# Altium footprint library Connectors Terminal.PcbLib: 6 footprints
Each footprint in its own frame and in the unit in brackets; x right, y up, seen from the top. Pads: shape width x height; smd on the part's side, far side on the other; paste and mask are expansions set on the pad; w line width, h text height; cw(c..) or ccw(c..) is an arc to the next point about the centre after c.
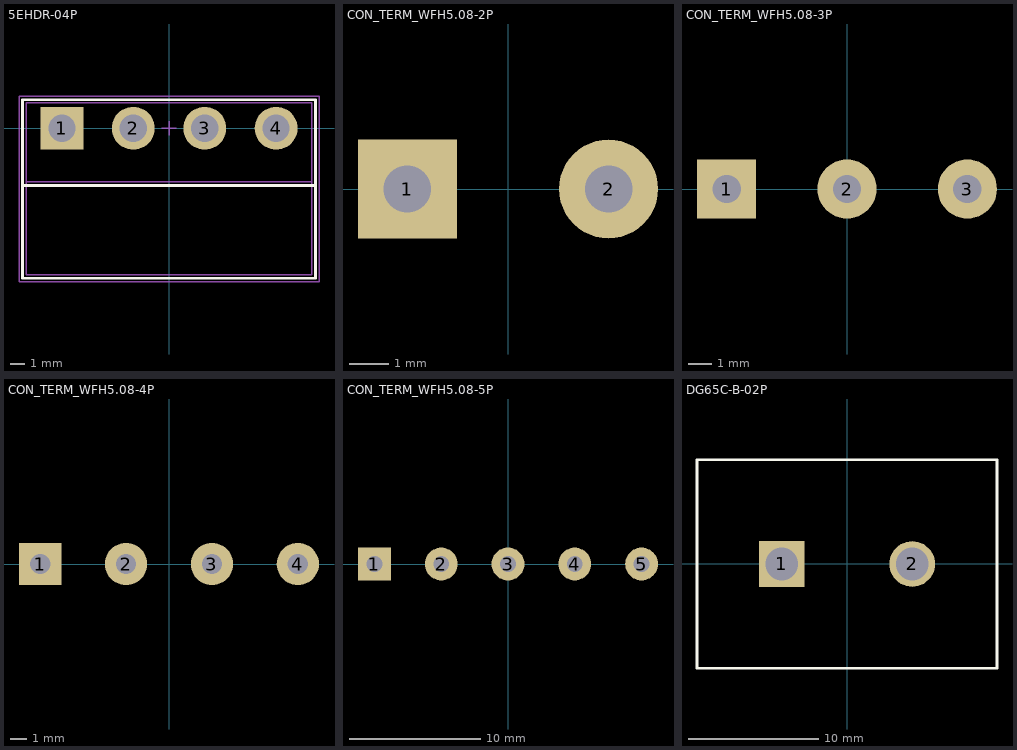
[diagram p0: the footprints below, top view; thin cyan lines are the x and y axes]

## 5EHDR-04P [mm] "5EHDR  connector; Place for header 4pins 5.0 pitch"
height 7
pads (4):
  rect 3x3 hole 1.9: 1(-7.5,0)
  round 3 hole 1.9: 2(-2.5,0) 3(2.5,0) 4(7.5,0)
Top Overlay:
  lines w0.2: -10.15,-4 10.25,-4 ; -10.25,-10.5 -10.25,2 10.25,2 10.25,-10.5 -10.25,-10.5
Top Package:
  circle w0.1: c7.5,0 r0.85
  circle w0.1: c2.5,0 r0.85
  circle w0.1: c-7.5,0 r0.85
  circle w0.1: c-2.5,0 r0.85
  lines w0.1: -10,-3.75 10,-3.75 ; -10,-10.25 10,-10.25 10,1.8 -10,1.8 -10,-10.25
Top Border:
  lines w0.1: -0.5,0 0.5,0 ; 0,-0.5 0,0.5 ; -10.5,-10.75 10.5,-10.75 10.5,2.25 -10.5,2.25 -10.5,-10.75
3D body "5EHDR-02P.step": height 8.57, standoff -3.9, extent 0,-10.25 10,1.75
3D body "5EHDR-02P.step": height 8.57, standoff -3.9, extent -10,-10.25 0,1.75

## CON_TERM_WFH5.08-2P [mm]
height 10
pads (2):
  rect 2.5x2.5 hole 1.2: 1(-2.54,0)
  round 2.5 hole 1.2: 2(2.54,0)
3D body: height 0.25, standoff 0, extent 0,0 0,0
3D body: height 0.25, standoff 0, extent 1.3,0.5 1.3,0.5
3D body "User Library-Terminal-Screw-3A-2way.step": height 10, standoff -3, extent -5.625,-3.025 4.975,4.575

## CON_TERM_WFH5.08-3P [mm]
height 10
pads (3):
  rect 2.5x2.5 hole 1.2: 1(-5.08,0)
  round 2.5 hole 1.2: 2(0,0) 3(5.08,0)
3D body: height 0.25, standoff 0, extent 0,0 0,0
3D body "User Library-Terminal-Screw-3A-3way.step": height 10, standoff -3, extent -8.075,-3 7.525,4.6
3D body: height 0.25, standoff 0, extent 1.3,0.5 1.3,0.5

## CON_TERM_WFH5.08-4P [mm]
height 10
pads (4):
  rect 2.5x2.5 hole 1.2: 1(-7.62,0)
  round 2.5 hole 1.2: 2(-2.54,0) 3(2.54,0) 4(7.62,0)
3D body: height 0.25, standoff 0, extent 0,0 0,0
3D body: height 0.25, standoff 0, extent 1.3,0.5 1.3,0.5
3D body "User Library-Terminal-Screw-3A-2way.step": height 10, standoff -3, extent -10.725,-3.025 -0.125,4.575
3D body "User Library-Terminal-Screw-3A-2way.step": height 10, standoff -3, extent -0.525,-3.025 10.075,4.575

## CON_TERM_WFH5.08-5P [mm]
height 10
pads (5):
  rect 2.5x2.5 hole 1.2: 1(-10.16,0)
  round 2.5 hole 1.2: 2(-5.08,0) 3(0,0) 4(5.08,0) 5(10.16,0)
3D body: height 0.25, standoff 0, extent 0,0 0,0
3D body "User Library-Terminal-Screw-3A-2way.step": height 10, standoff -3, extent 2,-3.025 12.6,4.575
3D body: height 0.25, standoff 0, extent 1.3,0.5 1.3,0.5
3D body "User Library-Terminal-Screw-3A-3way.step": height 10, standoff -3, extent -13.175,-3 2.425,4.6

## DG65C-B-02P [mm]
height 10
pads (2):
  rect 3.5x3.5 hole 2.5: 1(-5,0)
  round 3.5 hole 2.5: 2(5,0)
Top Overlay:
  lines w0.2: -11.5,-8 11.5,-8 11.5,8 -11.5,8 -11.5,-8
3D body: height 0.25, standoff 0, extent 0,0 0,0
3D body "User Library-Terminal_Block.step": height 18.64, standoff -4.86, extent -11.05,-7.8 10.95,7.7
3D body: height 0.25, standoff 0, extent 1.3,0.5 1.3,0.5